# EAGLE library part IR21844PBF (library charleses_parts_bin)
IRF21844 in 14DIP
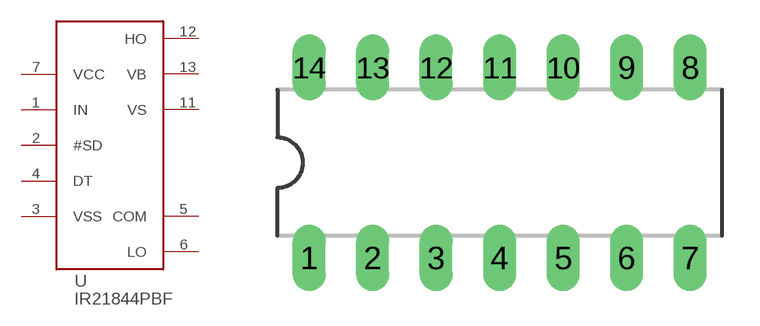
[diagram p1: symbol with the pads of DIP14_4_REAL; footprint DIP14_4_REAL]

Designator prefix -

## IR21844PBF  [DIP14_4_REAL]
1  IN  in
2  #SD  in
3  VSS  pwr
4  DT  pas
5  COM  pwr
6  LO
7  VCC  pwr
11  VS
12  HO
13  VB  pwr

## Footprint DIP14_4_REAL (pad centres in mm)
14 PIN DIP
drill 0.813 long: 1 -13.97,-2.54; 2 -11.43,-2.54; 3 -8.89,-2.54; 4 -6.35,-2.54; 5 -3.81,-2.54; 6 -1.27,-2.54; 7 1.27,-2.54; 8 1.27,5.08; 9 -1.27,5.08; 10 -3.81,5.08; 11 -6.35,5.08; 12 -8.89,5.08; 13 -11.43,5.08; 14 -13.97,5.08